# Altium footprint library SIL031A7271D.PcbLib: 1 footprints
Each footprint in its own frame and in the unit in brackets; x right, y up, seen from the top. Pads: shape width x height; smd on the part's side, far side on the other; paste and mask are expansions set on the pad; w line width, h text height; cw(c..) or ccw(c..) is an arc to the next point about the centre after c.
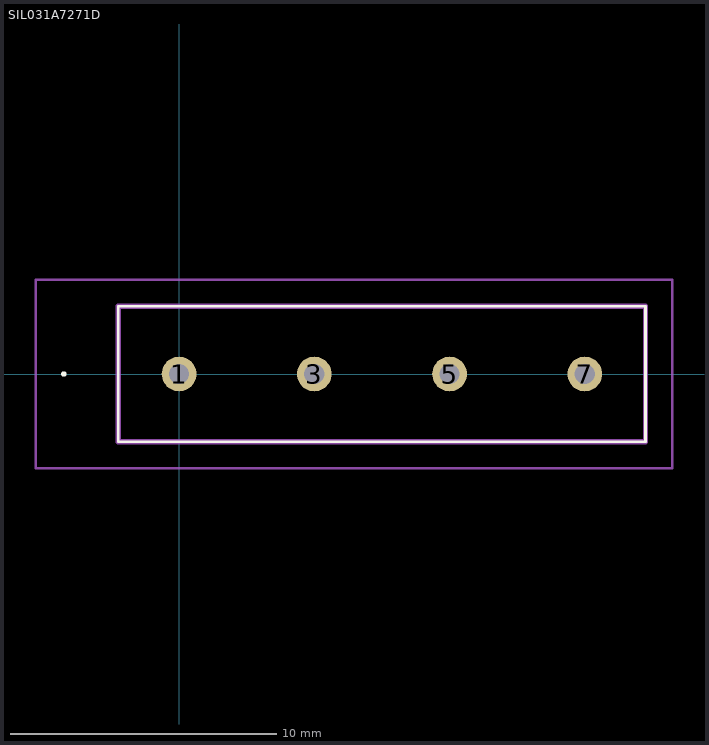
[diagram p0: the footprint, top view; thin cyan lines are the x and y axes]

## SIL031A7271D [mm]
pads (4):
  round 1.303 hole 0.76: 1(0,0) 3(5.08,0) 5(10.16,0) 7(15.24,0)
Top Overlay:
  lines w0.1: -4.38,0 -4.38,0 ; -4.38,0 ccw(c-4.33,0) -4.28,0 ; -4.38,0 cw(c-4.33,0) -4.28,0 ; -4.28,0 -4.28,0 ; -2.28,-2.54 17.52,-2.54 17.52,2.54 -2.28,2.54 -2.28,-2.54
Mechanical 15:
  lines w0.2: -2.28,-2.54 17.52,-2.54 17.52,2.54 -2.28,2.54 -2.28,-2.54
Mechanical 20:
  lines w0.1: -5.38,-3.54 18.52,-3.54 18.52,3.54 -5.38,3.54 -5.38,-3.54